# Altium schematic symbol library main_board_Schlib1.SchLib: 9 symbols
Pins are listed as number, name and electrical type; pins without a type are passive.

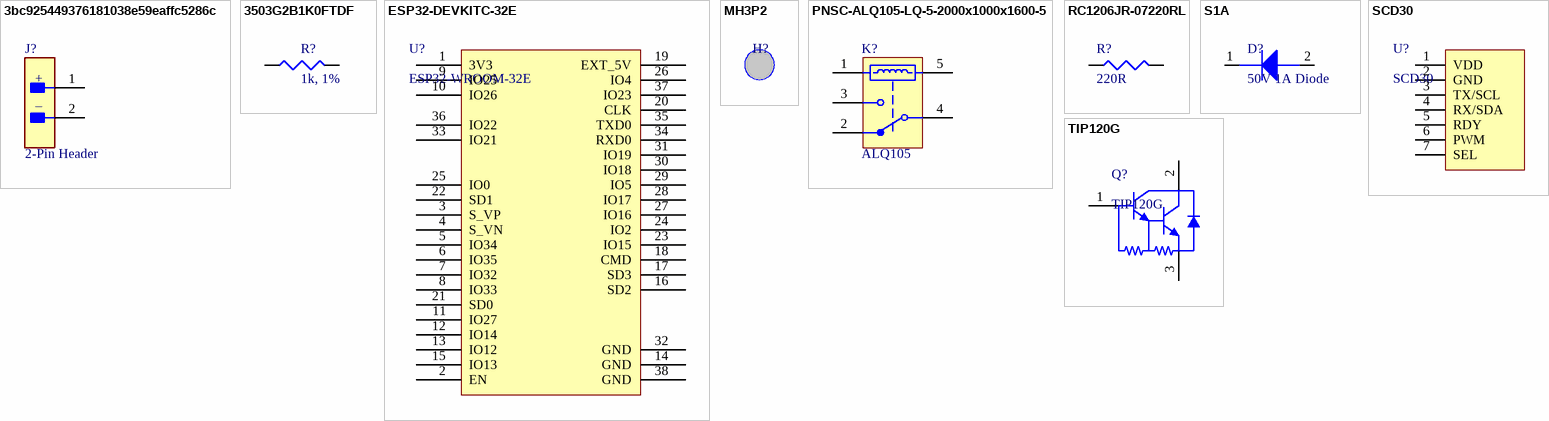
[diagram p0: symbols 3bc925449376181038e59eaffc5286c to TIP120G]

## 3bc925449376181038e59eaffc5286c
designator J?, comment 2-Pin Header
CONN HEADER VERT 2POS 2.54MM; Number of Contacts: 2; Gender: Male; Current Rating: 3A; Voltage Rating: 250V; Insulation Resistance: 1GR; Contact Material: Copper Alloy; Package Quantity: 1000; Color: Beige; Mount: Through Hole; Termination: Through Hole; Fastening Type: Friction; Contact Mating Length: 0.295inch; Pitch: 2.54mm; Max Operating Temperature: 105°C; Height: 14.2mm; RoHS Compliant: Yes; Packaging: Bulk; Contact Type: Male Pin; Width: 5.12mm; Housing Material: Nylon; Min Operating Temperature: -40°C; Insulation Material: Nylon; Contact Finish - Mating: TIN; Insulation Color: Beige; Contact Plating: Tin; Flammability Rating: UL94 V-0; Length: 5.8mm; Contact Gender: Male; Connector Type: Header; Contact Shape: Square; Series: WR-WTB; Number of Positions: 2; Number of Rows: 1
footprint HDR2x1
pins: 1, 2
text: +; _

## 3503G2B1K0FTDF
designator R?, comment 1k, 1%
Res 1K Ohm 1% 2W 1206; Manufacturer: TE Connectivity; Manufacturer Part Number: 3503G2B1K0FTDF; Supplier 1: Digi-Key; RoHS: No; Category: Chip SMD Resistors; Pricing 1: 1000=0.6642 (USD); RoHS Compliant: No; Supplier Part Number 1: 1712-3503G2B1K0FTDFTR-ND
footprint 1206-1k
pins: 1, 2

## ESP32-DEVKITC-32E
designator U?, comment ESP32-WROOM-32E
ESP32-WROOM-32E 4MB Flash; Manufacturer: Espressif Systems; Manufacturer Part Number: ESP32-DEVKITC-32E; Supplier 1: Digi-Key; RoHS: No; Category: RF Semiconductors and Devices; Stock 1: 1044; Pricing 1: 1=10 (USD); Supplier Part Number 1: 1965-ESP32-DEVKITC-32E-ND
footprint ESP32
pins: 1 3V3, 2 EN, 3 S_VP, 4 S_VN, 5 IO34, 6 IO35, 7 IO32, 8 IO33, 9 IO25, 10 IO26, 11 IO27, 12 IO14, 13 IO12, 14 GND, 15 IO13, 16 SD2, 17 SD3, 18 CMD, 19 EXT_5V, 20 CLK, 21 SD0, 22 SD1, 23 IO15, 24 IO2, 25 IO0, 26 IO4, 27 IO16, 28 IO17, 29 IO5, 30 IO18, 31 IO19, 32 GND, 33 IO21, 34 RXD0, 35 TXD0, 36 IO22, 37 IO23, 38 GND

## MH3P2
designator H?, comment Mounting Hole Non-Plated 3.2mm  (value not drawn)
Mounting Hole Non-Plated 3.2mm Drill Hole
footprint MH3.2mm

## PNSC-ALQ105-LQ-5-2000x1000x1600-5
designator K?, comment ALQ105
LQ Relays, 5 V Coil Voltage, 400 mW Nominal Operating Power, -40 to 85 degC, 5-Pin LQ, Carton, Case, RoHS; Manufacturer: Panasonic; Coil Voltage: 5 V; Max Switching Voltage: 250 V AC; Mechanical Life(Min.operation): 1x10^7; Electrical Life: 5x10^4; Pb-Free: True; Nominal Operating Power: 400 mW; Max Switching Current: 10 A (N.O.), 3 A (N.C.); RoHS: True; PackageReference: LQ-5-2000x1000x1600; Packing: Carton, Case; PackageDescription: 5-Pin Through Hole Terminal Package, Body 20 x 10 mm; ComponentLink1Description: Manufacturer URL; ComponentLink3Description: Package Specification; DatasheetVersion: 201410-T; ComponentLink1URL: http://www3.panasonic.biz/ac/ae/index.jsp; ComponentLink3URL: http://www3.panasonic.biz/ac/e_download/control/relay/power/catalog/mech_eng_lq.pdf?f_cd=401220; PartNumber: ALQ105; Mounting Technology: Through Hole; ComponentLink2Description: Datasheet; Series: LQ Relays; ComponentLink2URL: http://www3.panasonic.biz/ac/e_download/control/relay/power/catalog/mech_eng_lq.pdf?f_cd=401220; PackageVersion: ASCTB92E, 10/2014
footprint ALQ105
pins: 1, 2 NC, 3 NO, 4 COM, 5

## RC1206JR-07220RL
designator R?, comment 220R
RES 220 OHM 5% 1/4W 1206; Manufacturer: Yageo; Manufacturer Part Number: RC1206JR-07220RL; Power Rating: 250mW; Voltage Rating: 200V; Temperature Coefficient: 100ppm/°C; Supplier 1: Digi-Key; RoHS: Yes; Category: Chip SMD Resistors; Stock 1: 230254; Pricing 1: 1=0.1, 10=0.034, 50=0.0216, 100=0.0182, 500=0.01258, 1000=0.01089 (USD); Case/Package: 1206; Case Code (Imperial): 1206; Case Code (Metric): 3216; Size Code: 1206; Min Operating Temperature: -55°C; Max Operating Temperature: 155°C; Resistor Type: Thick Film; Resistance: 220R; Tolerance: 5%; Packaging: Cut Tape; Package Quantity: 1; Termination: SMD/SMT; Number of Terminations: 2; Max Power Dissipation: 250mW; Features: Moisture Resistant; Series: RC; Resistance Tolerance: 5%; Length: 0.122inch; Width: 0.063inch; Height: 0.026inch; Lead Free: Lead Free; RoHS Compliant: Yes; Reach SVHC Compliant: Unknown; ComponentLink1URL: https://datasheet.ciiva.com/29181/402460-da-01-en-smd-widerstand-chip1206-220-ohm-29181442.pdf?src-supplier=Conrad; ComponentLink1Description: https://datasheet.ciiva.com/29181/402460-da-01-en-smd-widerstand-chip1206-220-ohm-29181442.pdf?src-supplier=Conrad; ComponentLink2URL: https://datasheet.ciiva.com/2458/pyu-r-int-thick-7-2458729.pdf?src-supplier=Digi-Key; ComponentLink2Description: https://datasheet.ciiva.com/2458/pyu-r-int-thick-7-2458729.pdf?src-supplier=Digi-Key; ComponentLink3URL: https://datasheet.ciiva.com/2458/pyu-r-int-thick-7-2458730.pdf?src-supplier=Digi-Key; ComponentLink3Description: https://datasheet.ciiva.com/2458/pyu-r-int-thick-7-2458730.pdf?src-supplier=Digi-Key; ComponentLink4URL: https://datasheet.ciiva.com/2458/pyu-r-int-thick-7-2458728.pdf?src-supplier=Digi-Key; ComponentLink4Description: https://datasheet.ciiva.com/2458/pyu-r-int-thick-7-2458728.pdf?src-supplier=Digi-Key; ComponentLink5URL: https://datasheet.ciiva.com/7857/444357-7857465.pdf?src-supplier=Element14; ComponentLink5Description: https://datasheet.ciiva.com/7857/444357-7857465.pdf?src-supplier=Element14; ComponentLink6URL: https://datasheet.ciiva.com/7857/444357-7857466.pdf?src-supplier=Element14; ComponentLink6Description: https://datasheet.ciiva.com/7857/444357-7857466.pdf?src-supplier=Element14; ComponentLink7URL: https://datasheet.ciiva.com/16744/pyu-rc1206-51-rohs-l-4-16744807.pdf?src-supplier=Future+Electronics; ComponentLink7Description: https://datasheet.ciiva.com/16744/pyu-rc1206-51-rohs-l-4-16744807.pdf?src-supplier=Future+Electronics; Supplier Part Number 1: 311-220ERCT-ND
pins: 1, 2

## S1A
designator D?, comment 50V 1A Diode
Diode Gen Purp 50V 1A Sma; Manufacturer: Sangdest Microelectronics; Manufacturer Part Number: S1A; Supplier 1: Digi-Key; RoHS: No; Category: Uncategorized; Stock 1: 69965; Pricing 1: 1=0.13, 10=0.118, 100=0.0643, 500=0.03956, 1000=0.02697, 2000=0.02292 (USD); Supplier Part Number 1: 1655-S1ADKR-ND
footprint S1A
pins: 1, 2

## SCD30
designator U?
SCD30 Series 5.5 V 75 mA ±3% Carbon Dioxide (CO2) Sensor Module; Manufacturer: Sensirion; Operating Supply Current: 75mA; Supplier 1: Digi-Key; Manufacturer Part Number: SCD30; RoHS: Yes; Category: Sensors; Stock 1: 21624; Pricing 1: 1=61.79, 10=52.035, 25=48.7832, 80=47.15688 (USD); Min Operating Temperature: 0°C; Max Operating Temperature: 50°C; Series: -; Accuracy: 3%; RoHS Compliant: Yes; ComponentLink1URL: http://www.farnell.com/datasheets/2817986.pdf?src-supplier=Farnell; ComponentLink1Description: http://www.farnell.com/datasheets/2817986.pdf?src-supplier=Farnell; ComponentLink2URL: https://www.sensirion.com/fileadmin/user_upload/customers/sensirion/Dokumente/9.5_CO2/Sensirion_CO2_Sensors_Chart_Overview.pdf?src-supplier=Digi-Key; ComponentLink2Description: https://www.sensirion.com/fileadmin/user_upload/customers/sensirion/Dokumente/9.5_CO2/Sensirion_CO2_Sensors_Chart_Overview.pdf?src-supplier=Digi-Key; ComponentLink3URL: http://www.farnell.com/datasheets/2817986.pdf?src-supplier=Newark; ComponentLink3Description: http://www.farnell.com/datasheets/2817986.pdf?src-supplier=Newark; Supplier Part Number 1: 1649-1098-ND
footprint SCD30
pins: 1 VDD (power), 2 GND (power), 3 TX/SCL, 4 RX/SDA, 5 RDY, 6 PWM, 7 SEL

## TIP120G
designator Q?
ON Semi TIP120G NPN Darlington Transistor 8 A 60 V HFE: 1000 3-Pin TO-220; Manufacturer: ON Semiconductor; Max Power Dissipation: 65W; Collector Emitter Voltage (VCEO): 60V; Emitter Base Voltage (VEBO): 5V; Max Collector Current: 5A; Collector Emitter Saturation Voltage: 4V; hFE Min: 1000; Number of Elements: 1; Supplier 1: Digi-Key; Manufacturer Part Number: TIP120G; RoHS: Yes; Category: BJTs; Pricing 1: 1=0.76, 10=0.67, 100=0.5138, 500=0.40612, 1000=0.3249, 2000=0.29444, 5000=0.27413, 10000=0.26398 (USD); Case/Package: TO-220-3; Number of Pins: 3; Min Operating Temperature: -65°C; Max Operating Temperature: 150°C; Package Quantity: 50; Packaging: Rail/Tube; Polarity: NPN; Series: -; Collector Base Voltage (VCBO): 60V; Power Dissipation: 65W; Collector Emitter Breakdown Voltage: 60V; Collector-emitter Voltage-Max: 4V; Voltage Rating (DC): 60V; Current Rating: 5A; Continuous Collector Current: 5A; Length: 0.404inch; Width: 0.19inch; Height: 0.62inch; Radiation Hardening: No; Lead Free: Lead Free; RoHS Compliant: Yes; Reach SVHC Compliant: No; ComponentLink1URL: https://datasheet.ciiva.com/19476/803671-19476952.pdf?src-supplier=Jameco; ComponentLink1Description: https://datasheet.ciiva.com/19476/803671-19476952.pdf?src-supplier=Jameco; ComponentLink2URL: https://datasheet.ciiva.com/15139/getdatasheetpartid-41389-15139855.pdf?src-supplier=Verical; ComponentLink2Description: https://datasheet.ciiva.com/15139/getdatasheetpartid-41389-15139855.pdf?src-supplier=Verical; ComponentLink3URL: https://datasheet.ciiva.com/14546/70099572-14546719.pdf?src-supplier=Allied+Electronics; ComponentLink3Description: https://datasheet.ciiva.com/14546/70099572-14546719.pdf?src-supplier=Allied+Electronics; ComponentLink4URL: https://datasheet.ciiva.com/11210/tip120-d-11210463.pdf?src-supplier=Avnet; ComponentLink4Description: https://datasheet.ciiva.com/11210/tip120-d-11210463.pdf?src-supplier=Avnet; ComponentLink5URL: https://datasheet.ciiva.com/977/tip120-d-977163.pdf?src-supplier=Digi-Key; ComponentLink5Description: https://datasheet.ciiva.com/977/tip120-d-977163.pdf?src-supplier=Digi-Key; Supplier Part Number 1: TIP120GOS-ND
footprint TIP120G
pins: 1 B, 2 C, 3 E